# Altium integrated library ASAK-32.768KHZ-LRS-T.IntLib: 1 symbol
Pins are listed as number, name and electrical type; pins without a type are passive.

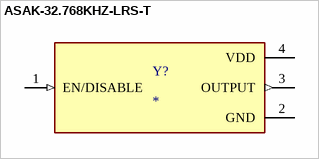
[diagram p0: symbol ASAK-32.768KHZ-LRS-T]

## ASAK-32.768KHZ-LRS-T
designator Y?
MP: ASAK-32.768KHZ-LRS-T; Value: *; Price: None; Availability: Unavailable; Package: None
footprint XTAL_ASAK-32.768KHZ-LRS-T
pins: 1 EN/DISABLE (in), 2 GND (power), 3 OUTPUT (out), 4 VDD (power)